# Altium schematic symbol library Schlib1.SchLib: 1 symbol
Pins are listed as number, name and electrical type; pins without a type are passive.

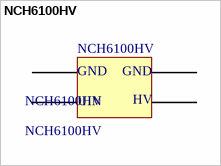
[diagram p0: symbol NCH6100HV]

## NCH6100HV
designator NCH6100HV
footprint NCH6100HV
pins: 19, 20, 21, 22
text: GND; UIN; HV